# Altium integrated library Diodes - TVS.IntLib: 5379 symbols (part 113 of 122)
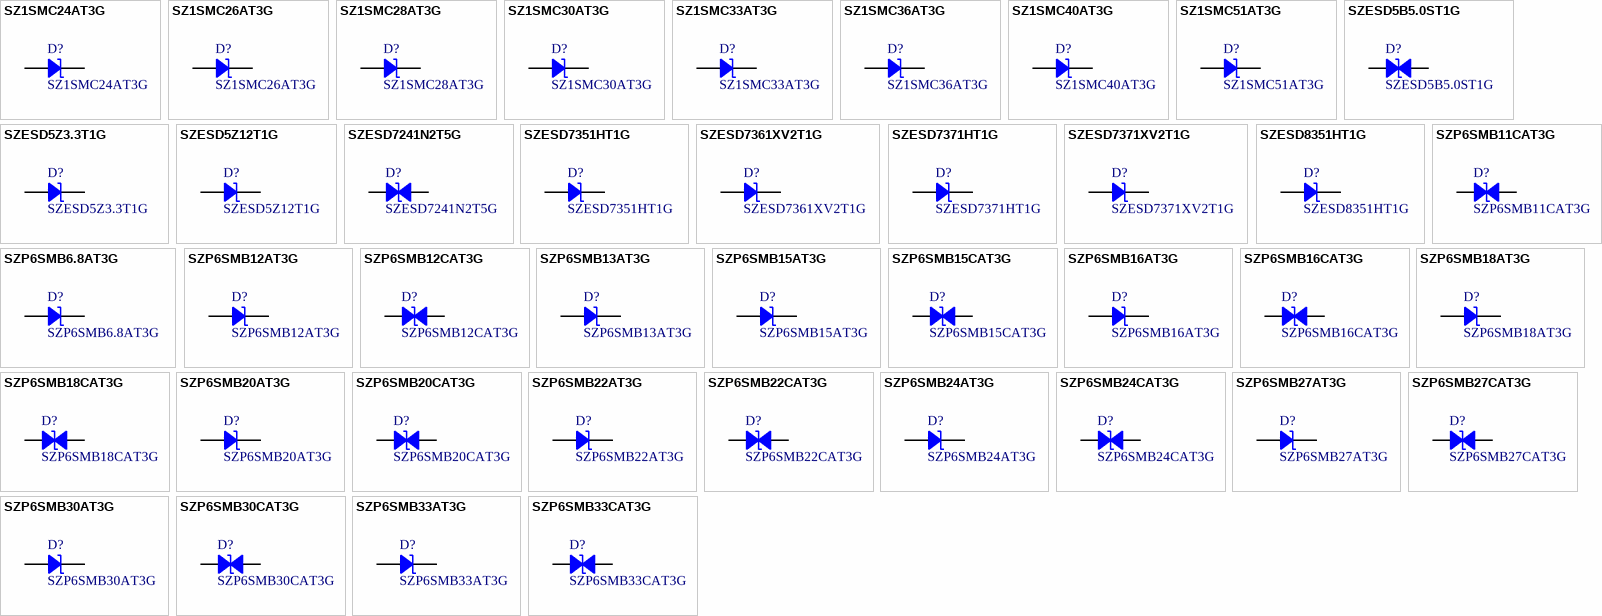
[diagram p246: symbols SZ1SMC24AT3G to SZP6SMB33CAT3G]

## SZP6SMB12AT3G
designator D?
TVS DIODE 10.2V 16.7V SMB; Manufacturer: Littelfuse Inc.; Capacitance @ Frequency: 1435pF @ 1MHz; Current - Peak Pulse (10/1000µs): 36A; Power Line Protection: No; Power - Peak Pulse: 600W; Type: Zener; Unidirectional Channels: 1; Voltage - Breakdown (Min): 11.4V; Part Number: SZP6SMB12AT3G; Applications: Automotive; ComponentLink1Description: Datasheet; ComponentLink1URL: https://www.littelfuse.com/~/media/electronics/datasheets/tvs_diodes/littelfuse_tvs_diode_szp6smb_datasheet.pdf.pdf; ComponentLink2Description: DigiKey Link; ComponentLink2URL: http://digikey.com/product-detail/en/littelfuse-inc/SZP6SMB12AT3G/F11606CT-ND/9326926; LastUpdated: 9/2/2020 1:19:51 AM; Lifecycle Status: Active; Minimum Order: 1; Mounting Type: Surface Mount; Operating Temperature: -65°C ~ 150°C (TJ); Package / Case: DO-214AA, SMB; Packaging: TapeAndReel; PartId: 11342; Part Status: Active; Price: 0.30; Series: Automotive, AEC-Q101; Supplier 1: DigiKey; Supplier Part Number 1: F11606CT-ND; Supplier Device Package: SMB; Voltage - Clamping (Max) @ Ipp: 16.7V; Voltage - Reverse Standoff (Typ): 10.2V
footprint DO214AA SMB
pins: 1, 2

## SZP6SMB12CAT3G
designator D?
TVS DIODE 10.2V 16.7V SMB; Manufacturer: Littelfuse Inc.; Bidirectional Channels: 1; Capacitance @ Frequency: 800pF @ 1MHz; Current - Peak Pulse (10/1000µs): 36A; Power Line Protection: No; Power - Peak Pulse: 600W; Type: Zener; Voltage - Breakdown (Min): 11.4V; Part Number: SZP6SMB12CAT3G; Applications: Automotive; ComponentLink1Description: Datasheet; ComponentLink1URL: https://www.littelfuse.com/~/media/electronics/datasheets/tvs_diodes/littelfuse_tvs_diode_szp6smb_datasheet.pdf.pdf; ComponentLink2Description: DigiKey Link; ComponentLink2URL: http://digikey.com/product-detail/en/littelfuse-inc/SZP6SMB12CAT3G/F11607CT-ND/9326927; LastUpdated: 9/2/2020 1:28:19 AM; Lifecycle Status: Active; Minimum Order: 1; Mounting Type: Surface Mount; Operating Temperature: -65°C ~ 150°C (TJ); Package / Case: DO-214AA, SMB; Packaging: TapeAndReel; PartId: 9299; Part Status: Active; Price: 0.35; Series: Automotive, AEC-Q101; Supplier 1: DigiKey; Supplier Part Number 1: F11607CT-ND; Supplier Device Package: SMB; Voltage - Clamping (Max) @ Ipp: 16.7V; Voltage - Reverse Standoff (Typ): 10.2V
footprint DO214AA SMB
pins: 1, 2

## SZP6SMB13AT3G
designator D?
TVS DIODE 11.1V 18.2V SMB; Manufacturer: Littelfuse Inc.; Capacitance @ Frequency: 1335pF @ 1MHz; Current - Peak Pulse (10/1000µs): 33A; Power Line Protection: No; Power - Peak Pulse: 600W; Type: Zener; Unidirectional Channels: 1; Voltage - Breakdown (Min): 12.4V; Part Number: SZP6SMB13AT3G; Applications: Automotive; ComponentLink1Description: Datasheet; ComponentLink1URL: https://www.littelfuse.com/~/media/electronics/datasheets/tvs_diodes/littelfuse_tvs_diode_szp6smb_datasheet.pdf.pdf; ComponentLink2Description: DigiKey Link; ComponentLink2URL: http://digikey.com/product-detail/en/littelfuse-inc/SZP6SMB13AT3G/F11609CT-ND/9326929; LastUpdated: 9/2/2020 1:19:50 AM; Lifecycle Status: Active; Minimum Order: 1; Mounting Type: Surface Mount; Operating Temperature: -65°C ~ 150°C (TJ); Package / Case: DO-214AA, SMB; Packaging: TapeAndReel; PartId: 11296; Part Status: Active; Price: 0.30; Series: Automotive, AEC-Q101; Supplier 1: DigiKey; Supplier Part Number 1: F11609CT-ND; Supplier Device Package: SMB; Voltage - Clamping (Max) @ Ipp: 18.2V; Voltage - Reverse Standoff (Typ): 11.1V
footprint DO214AA SMB
pins: 1, 2

## SZP6SMB15AT3G
designator D?
TVS DIODE 12.8V 21.2V SMB; Manufacturer: Littelfuse Inc.; Capacitance @ Frequency: 1175pF @ 1MHz; Current - Peak Pulse (10/1000µs): 28A; Power Line Protection: No; Power - Peak Pulse: 600W; Type: Zener; Unidirectional Channels: 1; Voltage - Breakdown (Min): 14.3V; Part Number: SZP6SMB15AT3G; Applications: Automotive; ComponentLink1Description: Datasheet; ComponentLink1URL: https://www.littelfuse.com/~/media/electronics/datasheets/tvs_diodes/littelfuse_tvs_diode_szp6smb_datasheet.pdf.pdf; ComponentLink2Description: DigiKey Link; ComponentLink2URL: http://digikey.com/product-detail/en/littelfuse-inc/SZP6SMB15AT3G/F11611CT-ND/9326931; LastUpdated: 9/2/2020 1:19:50 AM; Lifecycle Status: Active; Minimum Order: 1; Mounting Type: Surface Mount; Operating Temperature: -65°C ~ 150°C (TJ); Package / Case: DO-214AA, SMB; Packaging: TapeAndReel; PartId: 11295; Part Status: Active; Price: 0.30; Series: Automotive, AEC-Q101; Supplier 1: DigiKey; Supplier Part Number 1: F11611CT-ND; Supplier Device Package: SMB; Voltage - Clamping (Max) @ Ipp: 21.2V; Voltage - Reverse Standoff (Typ): 12.8V
footprint DO214AA SMB
pins: 1, 2

## SZP6SMB15CAT3G
designator D?
TVS DIODE 12.8V 21.2V SMB; Manufacturer: Littelfuse Inc.; Bidirectional Channels: 1; Capacitance @ Frequency: 645pF @ 1MHz; Current - Peak Pulse (10/1000µs): 28A; Power Line Protection: No; Power - Peak Pulse: 600W; Type: Zener; Voltage - Breakdown (Min): 14.3V; Part Number: SZP6SMB15CAT3G; Applications: Automotive; ComponentLink1Description: Datasheet; ComponentLink1URL: https://www.littelfuse.com/~/media/electronics/datasheets/tvs_diodes/littelfuse_tvs_diode_szp6smb_datasheet.pdf.pdf; ComponentLink2Description: DigiKey Link; ComponentLink2URL: http://digikey.com/product-detail/en/littelfuse-inc/SZP6SMB15CAT3G/F11612CT-ND/9326932; LastUpdated: 9/2/2020 1:28:18 AM; Lifecycle Status: Active; Minimum Order: 1; Mounting Type: Surface Mount; Operating Temperature: -65°C ~ 150°C (TJ); Package / Case: DO-214AA, SMB; Packaging: TapeAndReel; PartId: 9141; Part Status: Active; Price: 0.35; Series: Automotive, AEC-Q101; Supplier 1: DigiKey; Supplier Part Number 1: F11612CT-ND; Supplier Device Package: SMB; Voltage - Clamping (Max) @ Ipp: 21.2V; Voltage - Reverse Standoff (Typ): 12.8V
footprint DO214AA SMB
pins: 1, 2

## SZP6SMB16AT3G
designator D?
TVS DIODE 13.6V 22.5V SMB; Manufacturer: Littelfuse Inc.; Capacitance @ Frequency: 1110pF @ 1MHz; Current - Peak Pulse (10/1000µs): 27A; Power Line Protection: No; Power - Peak Pulse: 600W; Type: Zener; Unidirectional Channels: 1; Voltage - Breakdown (Min): 15.2V; Part Number: SZP6SMB16AT3G; Applications: Automotive; ComponentLink1Description: Datasheet; ComponentLink1URL: https://www.littelfuse.com/~/media/electronics/datasheets/tvs_diodes/littelfuse_tvs_diode_szp6smb_datasheet.pdf.pdf; ComponentLink2Description: DigiKey Link; ComponentLink2URL: http://digikey.com/product-detail/en/littelfuse-inc/SZP6SMB16AT3G/F11614CT-ND/9326934; LastUpdated: 9/2/2020 1:19:51 AM; Lifecycle Status: Active; Minimum Order: 1; Mounting Type: Surface Mount; Operating Temperature: -65°C ~ 150°C (TJ); Package / Case: DO-214AA, SMB; Packaging: TapeAndReel; PartId: 11340; Part Status: Active; Price: 0.30; Series: Automotive, AEC-Q101; Supplier 1: DigiKey; Supplier Part Number 1: F11614CT-ND; Supplier Device Package: SMB; Voltage - Clamping (Max) @ Ipp: 22.5V; Voltage - Reverse Standoff (Typ): 13.6V
footprint DO214AA SMB
pins: 1, 2

## SZP6SMB16CAT3G
designator D?
TVS DIODE 13.6V 22.5V SMB; Manufacturer: Littelfuse Inc.; Bidirectional Channels: 1; Capacitance @ Frequency: 610pF @ 1MHz; Current - Peak Pulse (10/1000µs): 27A; Power Line Protection: No; Power - Peak Pulse: 600W; Type: Zener; Voltage - Breakdown (Min): 15.2V; Part Number: SZP6SMB16CAT3G; Applications: Automotive; ComponentLink1Description: Datasheet; ComponentLink1URL: https://www.littelfuse.com/~/media/electronics/datasheets/tvs_diodes/littelfuse_tvs_diode_szp6smb_datasheet.pdf.pdf; ComponentLink2Description: DigiKey Link; ComponentLink2URL: http://digikey.com/product-detail/en/littelfuse-inc/SZP6SMB16CAT3G/F11615CT-ND/9326935; LastUpdated: 9/2/2020 1:28:19 AM; Lifecycle Status: Active; Minimum Order: 1; Mounting Type: Surface Mount; Operating Temperature: -65°C ~ 150°C (TJ); Package / Case: DO-214AA, SMB; Packaging: TapeAndReel; PartId: 9302; Part Status: Active; Price: 0.35; Series: Automotive, AEC-Q101; Supplier 1: DigiKey; Supplier Part Number 1: F11615CT-ND; Supplier Device Package: SMB; Voltage - Clamping (Max) @ Ipp: 22.5V; Voltage - Reverse Standoff (Typ): 13.6V
footprint DO214AA SMB
pins: 1, 2

## SZP6SMB18AT3G
designator D?
TVS DIODE 15.3V 25.2V SMB; Manufacturer: Littelfuse Inc.; Capacitance @ Frequency: 1000pF @ 1MHz; Current - Peak Pulse (10/1000µs): 24A; Power Line Protection: No; Power - Peak Pulse: 600W; Type: Zener; Unidirectional Channels: 1; Voltage - Breakdown (Min): 17.1V; Part Number: SZP6SMB18AT3G; Applications: Automotive; ComponentLink1Description: Datasheet; ComponentLink1URL: https://www.littelfuse.com/~/media/electronics/datasheets/tvs_diodes/littelfuse_tvs_diode_szp6smb_datasheet.pdf.pdf; ComponentLink2Description: DigiKey Link; ComponentLink2URL: http://digikey.com/product-detail/en/littelfuse-inc/SZP6SMB18AT3G/F11617CT-ND/9326937; LastUpdated: 9/2/2020 1:19:43 AM; Lifecycle Status: Active; Minimum Order: 1; Mounting Type: Surface Mount; Operating Temperature: -65°C ~ 150°C (TJ); Package / Case: DO-214AA, SMB; Packaging: TapeAndReel; PartId: 10527; Part Status: Active; Price: 0.24; Series: Automotive, AEC-Q101; Supplier 1: DigiKey; Supplier Part Number 1: F11617CT-ND; Supplier Device Package: SMB; Voltage - Clamping (Max) @ Ipp: 25.2V; Voltage - Reverse Standoff (Typ): 15.3V
footprint DO214AA SMB
pins: 1, 2

## SZP6SMB18CAT3G
designator D?
TVS DIODE 15.3V 25.2V SMB; Manufacturer: Littelfuse Inc.; Bidirectional Channels: 1; Capacitance @ Frequency: 545pF @ 1MHz; Current - Peak Pulse (10/1000µs): 24A; Power Line Protection: No; Power - Peak Pulse: 600W; Type: Zener; Voltage - Breakdown (Min): 17.1V; Part Number: SZP6SMB18CAT3G; Applications: Automotive; ComponentLink1Description: Datasheet; ComponentLink1URL: https://www.littelfuse.com/~/media/electronics/datasheets/tvs_diodes/littelfuse_tvs_diode_szp6smb_datasheet.pdf.pdf; ComponentLink2Description: DigiKey Link; ComponentLink2URL: http://digikey.com/product-detail/en/littelfuse-inc/SZP6SMB18CAT3G/F11618CT-ND/9326938; LastUpdated: 9/2/2020 1:28:19 AM; Lifecycle Status: Active; Minimum Order: 1; Mounting Type: Surface Mount; Operating Temperature: -65°C ~ 150°C (TJ); Package / Case: DO-214AA, SMB; Packaging: TapeAndReel; PartId: 9300; Part Status: Active; Price: 0.35; Series: Automotive, AEC-Q101; Supplier 1: DigiKey; Supplier Part Number 1: F11618CT-ND; Supplier Device Package: SMB; Voltage - Clamping (Max) @ Ipp: 25.2V; Voltage - Reverse Standoff (Typ): 15.3V
footprint DO214AA SMB
pins: 1, 2

## SZP6SMB20AT3G
designator D?
TVS DIODE 17.1V 27.7V SMB; Manufacturer: Littelfuse Inc.; Capacitance @ Frequency: 910pF @ 1MHz; Current - Peak Pulse (10/1000µs): 22A; Power Line Protection: No; Power - Peak Pulse: 600W; Type: Zener; Unidirectional Channels: 1; Voltage - Breakdown (Min): 19V; Part Number: SZP6SMB20AT3G; Applications: Automotive; ComponentLink1Description: Datasheet; ComponentLink1URL: https://www.littelfuse.com/~/media/electronics/datasheets/tvs_diodes/littelfuse_tvs_diode_szp6smb_datasheet.pdf.pdf; ComponentLink2Description: DigiKey Link; ComponentLink2URL: http://digikey.com/product-detail/en/littelfuse-inc/SZP6SMB20AT3G/F11619CT-ND/9326939; LastUpdated: 9/2/2020 1:19:51 AM; Lifecycle Status: Active; Minimum Order: 1; Mounting Type: Surface Mount; Operating Temperature: -65°C ~ 150°C (TJ); Package / Case: DO-214AA, SMB; Packaging: TapeAndReel; PartId: 11312; Part Status: Active; Price: 0.24; Series: Automotive, AEC-Q101; Supplier 1: DigiKey; Supplier Part Number 1: F11619CT-ND; Supplier Device Package: SMB; Voltage - Clamping (Max) @ Ipp: 27.7V; Voltage - Reverse Standoff (Typ): 17.1V
footprint DO214AA SMB
pins: 1, 2

## SZP6SMB20CAT3G
designator D?
TVS DIODE 17.1V 27.7V SMB; Manufacturer: Littelfuse Inc.; Bidirectional Channels: 1; Capacitance @ Frequency: 490pF @ 1MHz; Current - Peak Pulse (10/1000µs): 22A; Power Line Protection: No; Power - Peak Pulse: 600W; Type: Zener; Voltage - Breakdown (Min): 19V; Part Number: SZP6SMB20CAT3G; Applications: Automotive; ComponentLink1Description: Datasheet; ComponentLink1URL: https://www.littelfuse.com/~/media/electronics/datasheets/tvs_diodes/littelfuse_tvs_diode_szp6smb_datasheet.pdf.pdf; ComponentLink2Description: DigiKey Link; ComponentLink2URL: http://digikey.com/product-detail/en/littelfuse-inc/SZP6SMB20CAT3G/F11620CT-ND/9326940; LastUpdated: 9/2/2020 1:28:22 AM; Lifecycle Status: Active; Minimum Order: 1; Mounting Type: Surface Mount; Operating Temperature: -65°C ~ 150°C (TJ); Package / Case: DO-214AA, SMB; Packaging: TapeAndReel; PartId: 9652; Part Status: Active; Price: 0.29; Series: Automotive, AEC-Q101; Supplier 1: DigiKey; Supplier Part Number 1: F11620CT-ND; Supplier Device Package: SMB; Voltage - Clamping (Max) @ Ipp: 27.7V; Voltage - Reverse Standoff (Typ): 17.1V
footprint DO214AA SMB
pins: 1, 2

## SZP6SMB22AT3G
designator D?
TVS DIODE 18.8V 30.6V SMB; Manufacturer: Littelfuse Inc.; Capacitance @ Frequency: 835pF @ 1MHz; Current - Peak Pulse (10/1000µs): 20A; Power Line Protection: No; Power - Peak Pulse: 600W; Type: Zener; Unidirectional Channels: 1; Voltage - Breakdown (Min): 20.9V; Part Number: SZP6SMB22AT3G; Applications: Automotive; ComponentLink1Description: Datasheet; ComponentLink1URL: https://www.littelfuse.com/~/media/electronics/datasheets/tvs_diodes/littelfuse_tvs_diode_szp6smb_datasheet.pdf.pdf; ComponentLink2Description: DigiKey Link; ComponentLink2URL: http://digikey.com/product-detail/en/littelfuse-inc/SZP6SMB22AT3G/F11621CT-ND/9326941; LastUpdated: 9/2/2020 1:19:51 AM; Lifecycle Status: Active; Minimum Order: 1; Mounting Type: Surface Mount; Operating Temperature: -65°C ~ 150°C (TJ); Package / Case: DO-214AA, SMB; Packaging: TapeAndReel; PartId: 11349; Part Status: Active; Price: 0.30; Series: Automotive, AEC-Q101; Supplier 1: DigiKey; Supplier Part Number 1: F11621CT-ND; Supplier Device Package: SMB; Voltage - Clamping (Max) @ Ipp: 30.6V; Voltage - Reverse Standoff (Typ): 18.8V
footprint DO214AA SMB
pins: 1, 2

## SZP6SMB22CAT3G
designator D?
TVS DIODE 18.8V 30.6V SMB; Manufacturer: Littelfuse Inc.; Bidirectional Channels: 1; Capacitance @ Frequency: 450pF @ 1MHz; Current - Peak Pulse (10/1000µs): 20A; Power Line Protection: No; Power - Peak Pulse: 600W; Type: Zener; Voltage - Breakdown (Min): 20.9V; Part Number: SZP6SMB22CAT3G; Applications: Automotive; ComponentLink1Description: Datasheet; ComponentLink1URL: https://www.littelfuse.com/~/media/electronics/datasheets/tvs_diodes/littelfuse_tvs_diode_szp6smb_datasheet.pdf.pdf; ComponentLink2Description: DigiKey Link; ComponentLink2URL: http://digikey.com/product-detail/en/littelfuse-inc/SZP6SMB22CAT3G/F11622CT-ND/9326942; LastUpdated: 9/2/2020 1:28:19 AM; Lifecycle Status: Active; Minimum Order: 1; Mounting Type: Surface Mount; Operating Temperature: -65°C ~ 150°C (TJ); Package / Case: DO-214AA, SMB; Packaging: TapeAndReel; PartId: 9316; Part Status: Active; Price: 0.37; Series: Automotive, AEC-Q101; Supplier 1: DigiKey; Supplier Part Number 1: F11622CT-ND; Supplier Device Package: SMB; Voltage - Clamping (Max) @ Ipp: 30.6V; Voltage - Reverse Standoff (Typ): 18.8V
footprint DO214AA SMB
pins: 1, 2

## SZP6SMB24AT3G
designator D?
TVS DIODE 20.5V 33.2V SMB; Manufacturer: Littelfuse Inc.; Capacitance @ Frequency: 775pF @ 1MHz; Current - Peak Pulse (10/1000µs): 18A; Power Line Protection: No; Power - Peak Pulse: 600W; Type: Zener; Unidirectional Channels: 1; Voltage - Breakdown (Min): 22.8V; Part Number: SZP6SMB24AT3G; Applications: Automotive; ComponentLink1Description: Datasheet; ComponentLink1URL: https://www.littelfuse.com/~/media/electronics/datasheets/tvs_diodes/littelfuse_tvs_diode_szp6smb_datasheet.pdf.pdf; ComponentLink2Description: DigiKey Link; ComponentLink2URL: http://digikey.com/product-detail/en/littelfuse-inc/SZP6SMB24AT3G/F11623CT-ND/9326943; LastUpdated: 9/2/2020 1:19:51 AM; Lifecycle Status: Active; Minimum Order: 1; Mounting Type: Surface Mount; Operating Temperature: -65°C ~ 150°C (TJ); Package / Case: DO-214AA, SMB; Packaging: TapeAndReel; PartId: 11348; Part Status: Active; Price: 0.30; Series: Automotive, AEC-Q101; Supplier 1: DigiKey; Supplier Part Number 1: F11623CT-ND; Supplier Device Package: SMB; Voltage - Clamping (Max) @ Ipp: 33.2V; Voltage - Reverse Standoff (Typ): 20.5V
footprint DO214AA SMB
pins: 1, 2

## SZP6SMB24CAT3G
designator D?
TVS DIODE 20.5V 33.2V SMB; Manufacturer: Littelfuse Inc.; Bidirectional Channels: 1; Capacitance @ Frequency: 415pF @ 1MHz; Current - Peak Pulse (10/1000µs): 18A; Power Line Protection: No; Power - Peak Pulse: 600W; Type: Zener; Voltage - Breakdown (Min): 22.8V; Part Number: SZP6SMB24CAT3G; Applications: Automotive; ComponentLink1Description: Datasheet; ComponentLink1URL: https://www.littelfuse.com/~/media/electronics/datasheets/tvs_diodes/littelfuse_tvs_diode_szp6smb_datasheet.pdf.pdf; ComponentLink2Description: DigiKey Link; ComponentLink2URL: http://digikey.com/product-detail/en/littelfuse-inc/SZP6SMB24CAT3G/F11624CT-ND/9326944; LastUpdated: 9/2/2020 1:28:19 AM; Lifecycle Status: Active; Minimum Order: 1; Mounting Type: Surface Mount; Operating Temperature: -65°C ~ 150°C (TJ); Package / Case: DO-214AA, SMB; Packaging: TapeAndReel; PartId: 9306; Part Status: Active; Price: 0.35; Series: Automotive, AEC-Q101; Supplier 1: DigiKey; Supplier Part Number 1: F11624CT-ND; Supplier Device Package: SMB; Voltage - Clamping (Max) @ Ipp: 33.2V; Voltage - Reverse Standoff (Typ): 20.5V
footprint DO214AA SMB
pins: 1, 2

## SZP6SMB27AT3G
designator D?
TVS DIODE 23.1V 37.5V SMB; Manufacturer: Littelfuse Inc.; Capacitance @ Frequency: 700pF @ 1MHz; Current - Peak Pulse (10/1000µs): 16A; Power Line Protection: No; Power - Peak Pulse: 600W; Type: Zener; Unidirectional Channels: 1; Voltage - Breakdown (Min): 25.7V; Part Number: SZP6SMB27AT3G; Applications: Automotive; ComponentLink1Description: Datasheet; ComponentLink1URL: https://www.littelfuse.com/~/media/electronics/datasheets/tvs_diodes/littelfuse_tvs_diode_szp6smb_datasheet.pdf.pdf; ComponentLink2Description: DigiKey Link; ComponentLink2URL: http://digikey.com/product-detail/en/littelfuse-inc/SZP6SMB27AT3G/SZP6SMB27AT3GOSCT-ND/5969195; LastUpdated: 9/2/2020 1:19:43 AM; Lifecycle Status: Active; Minimum Order: 1; Mounting Type: Surface Mount; Operating Temperature: -65°C ~ 150°C (TJ); Package / Case: DO-214AA, SMB; Packaging: TapeAndReel; PartId: 10531; Part Status: Active; Price: 0.24; Series: Automotive, AEC-Q101; Supplier 1: DigiKey; Supplier Part Number 1: SZP6SMB27AT3GOSCT-ND; Supplier Device Package: SMB; Voltage - Clamping (Max) @ Ipp: 37.5V; Voltage - Reverse Standoff (Typ): 23.1V
footprint DO214AA SMB
pins: 1, 2

## SZP6SMB27CAT3G
designator D?
TVS DIODE 23.1V 37.5V SMB; Manufacturer: Littelfuse Inc.; Bidirectional Channels: 1; Capacitance @ Frequency: 370pF @ 1MHz; Current - Peak Pulse (10/1000µs): 16A; Power Line Protection: No; Power - Peak Pulse: 600W; Type: Zener; Voltage - Breakdown (Min): 25.7V; Part Number: SZP6SMB27CAT3G; Applications: Automotive; ComponentLink1Description: Datasheet; ComponentLink1URL: https://www.littelfuse.com/~/media/electronics/datasheets/tvs_diodes/littelfuse_tvs_diode_szp6smb_datasheet.pdf.pdf; ComponentLink2Description: DigiKey Link; ComponentLink2URL: http://digikey.com/product-detail/en/littelfuse-inc/SZP6SMB27CAT3G/F11625CT-ND/9326945; LastUpdated: 9/2/2020 1:28:16 AM; Lifecycle Status: Active; Minimum Order: 1; Mounting Type: Surface Mount; Operating Temperature: -65°C ~ 150°C (TJ); Package / Case: DO-214AA, SMB; Packaging: TapeAndReel; PartId: 8903; Part Status: Active; Price: 0.26; Series: Automotive, AEC-Q101; Supplier 1: DigiKey; Supplier Part Number 1: F11625CT-ND; Supplier Device Package: SMB; Voltage - Clamping (Max) @ Ipp: 37.5V; Voltage - Reverse Standoff (Typ): 23.1V
footprint DO214AA SMB
pins: 1, 2

## SZP6SMB30AT3G
designator D?
TVS DIODE 25.6V 41.4V SMB; Manufacturer: Littelfuse Inc.; Capacitance @ Frequency: 635pF @ 1MHz; Current - Peak Pulse (10/1000µs): 14.4A; Power Line Protection: No; Power - Peak Pulse: 600W; Type: Zener; Unidirectional Channels: 1; Voltage - Breakdown (Min): 28.5V; Part Number: SZP6SMB30AT3G; Applications: Automotive; ComponentLink1Description: Datasheet; ComponentLink1URL: https://www.littelfuse.com/~/media/electronics/datasheets/tvs_diodes/littelfuse_tvs_diode_szp6smb_datasheet.pdf.pdf; ComponentLink2Description: DigiKey Link; ComponentLink2URL: http://digikey.com/product-detail/en/littelfuse-inc/SZP6SMB30AT3G/F11626CT-ND/9326946; LastUpdated: 9/2/2020 1:19:43 AM; Lifecycle Status: Active; Minimum Order: 1; Mounting Type: Surface Mount; Operating Temperature: -65°C ~ 150°C (TJ); Package / Case: DO-214AA, SMB; Packaging: TapeAndReel; PartId: 10525; Part Status: Active; Price: 0.24; Series: Automotive, AEC-Q101; Supplier 1: DigiKey; Supplier Part Number 1: F11626CT-ND; Supplier Device Package: SMB; Voltage - Clamping (Max) @ Ipp: 41.4V; Voltage - Reverse Standoff (Typ): 25.6V
footprint DO214AA SMB
pins: 1, 2

## SZP6SMB30CAT3G
designator D?
TVS DIODE 25.6V 41.4V SMB; Manufacturer: Littelfuse Inc.; Bidirectional Channels: 1; Capacitance @ Frequency: 335pF @ 1MHz; Current - Peak Pulse (10/1000µs): 14.4A; Power Line Protection: No; Power - Peak Pulse: 600W; Type: Zener; Voltage - Breakdown (Min): 28.5V; Part Number: SZP6SMB30CAT3G; Applications: Automotive; ComponentLink1Description: Datasheet; ComponentLink1URL: https://www.littelfuse.com/~/media/electronics/datasheets/tvs_diodes/littelfuse_tvs_diode_szp6smb_datasheet.pdf.pdf; ComponentLink2Description: DigiKey Link; ComponentLink2URL: http://digikey.com/product-detail/en/littelfuse-inc/SZP6SMB30CAT3G/F11627CT-ND/9326947; LastUpdated: 9/2/2020 1:28:22 AM; Lifecycle Status: Active; Minimum Order: 1; Mounting Type: Surface Mount; Operating Temperature: -65°C ~ 150°C (TJ); Package / Case: DO-214AA, SMB; Packaging: TapeAndReel; PartId: 9645; Part Status: Active; Price: 0.29; Series: Automotive, AEC-Q101; Supplier 1: DigiKey; Supplier Part Number 1: F11627CT-ND; Supplier Device Package: SMB; Voltage - Clamping (Max) @ Ipp: 41.4V; Voltage - Reverse Standoff (Typ): 25.6V
footprint DO214AA SMB
pins: 1, 2

## SZP6SMB33AT3G
designator D?
TVS DIODE 28.2V 45.7V SMB; Manufacturer: Littelfuse Inc.; Capacitance @ Frequency: 585pF @ 1MHz; Current - Peak Pulse (10/1000µs): 13.2A; Power Line Protection: No; Power - Peak Pulse: 600W; Type: Zener; Unidirectional Channels: 1; Voltage - Breakdown (Min): 31.4V; Part Number: SZP6SMB33AT3G; Applications: Automotive; ComponentLink1Description: Datasheet; ComponentLink1URL: https://www.littelfuse.com/~/media/electronics/datasheets/tvs_diodes/littelfuse_tvs_diode_szp6smb_datasheet.pdf.pdf; ComponentLink2Description: DigiKey Link; ComponentLink2URL: http://digikey.com/product-detail/en/littelfuse-inc/SZP6SMB33AT3G/F11629CT-ND/9326949; LastUpdated: 9/2/2020 1:19:45 AM; Lifecycle Status: Active; Minimum Order: 1; Mounting Type: Surface Mount; Operating Temperature: -65°C ~ 150°C (TJ); Package / Case: DO-214AA, SMB; Packaging: TapeAndReel; PartId: 10736; Part Status: Active; Price: 0.24; Series: Automotive, AEC-Q101; Supplier 1: DigiKey; Supplier Part Number 1: F11629CT-ND; Supplier Device Package: SMB; Voltage - Clamping (Max) @ Ipp: 45.7V; Voltage - Reverse Standoff (Typ): 28.2V
footprint DO214AA SMB
pins: 1, 2

## SZP6SMB33CAT3G
designator D?
TVS DIODE 28.2V 45.7V SMB; Manufacturer: Littelfuse Inc.; Bidirectional Channels: 1; Capacitance @ Frequency: 305pF @ 1MHz; Current - Peak Pulse (10/1000µs): 13.2A; Power Line Protection: No; Power - Peak Pulse: 600W; Type: Zener; Voltage - Breakdown (Min): 31.4V; Part Number: SZP6SMB33CAT3G; Applications: Automotive; ComponentLink1Description: Datasheet; ComponentLink1URL: https://www.littelfuse.com/~/media/electronics/datasheets/tvs_diodes/littelfuse_tvs_diode_szp6smb_datasheet.pdf.pdf; ComponentLink2Description: DigiKey Link; ComponentLink2URL: http://digikey.com/product-detail/en/littelfuse-inc/SZP6SMB33CAT3G/F11630CT-ND/9326950; LastUpdated: 9/2/2020 1:28:19 AM; Lifecycle Status: Active; Minimum Order: 1; Mounting Type: Surface Mount; Operating Temperature: -65°C ~ 150°C (TJ); Package / Case: DO-214AA, SMB; Packaging: TapeAndReel; PartId: 9314; Part Status: Active; Price: 0.34; Series: Automotive, AEC-Q101; Supplier 1: DigiKey; Supplier Part Number 1: F11630CT-ND; Supplier Device Package: SMB; Voltage - Clamping (Max) @ Ipp: 45.7V; Voltage - Reverse Standoff (Typ): 28.2V
footprint DO214AA SMB
pins: 1, 2

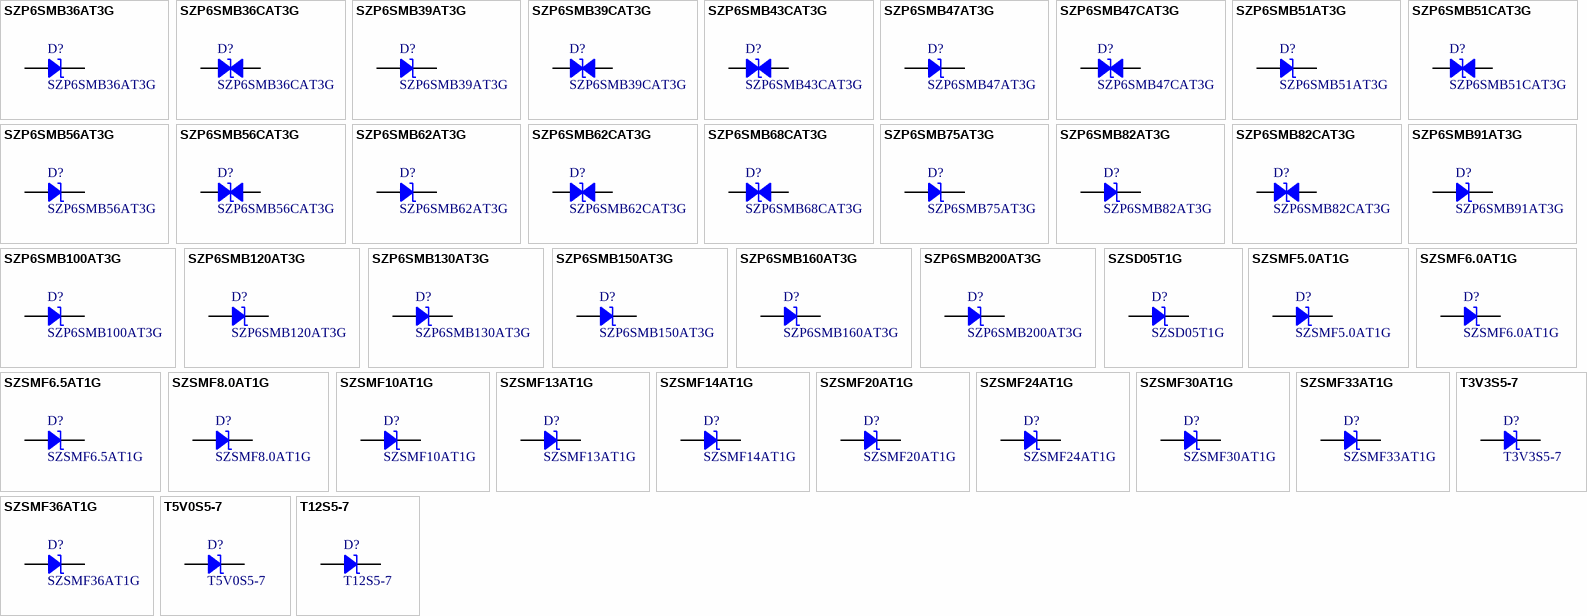
[diagram p125: symbols SZP6SMB36AT3G to T12S5-7]

## SZP6SMB36AT3G
designator D?
TVS DIODE 30.8V 49.9V SMB; Manufacturer: Littelfuse Inc.; Capacitance @ Frequency: 540pF @ 1MHz; Current - Peak Pulse (10/1000µs): 12A; Power Line Protection: No; Power - Peak Pulse: 600W; Type: Zener; Unidirectional Channels: 1; Voltage - Breakdown (Min): 34.2V; Part Number: SZP6SMB36AT3G; Applications: Automotive; ComponentLink1Description: Datasheet; ComponentLink1URL: https://www.littelfuse.com/~/media/electronics/datasheets/tvs_diodes/littelfuse_tvs_diode_szp6smb_datasheet.pdf.pdf; ComponentLink2Description: DigiKey Link; ComponentLink2URL: http://digikey.com/product-detail/en/littelfuse-inc/SZP6SMB36AT3G/SZP6SMB36AT3GOSCT-ND/5969200; LastUpdated: 9/2/2020 1:19:43 AM; Lifecycle Status: Active; Minimum Order: 1; Mounting Type: Surface Mount; Operating Temperature: -65°C ~ 150°C (TJ); Package / Case: DO-214AA, SMB; Packaging: TapeAndReel; PartId: 10565; Part Status: Active; Price: 0.24; Series: Automotive, AEC-Q101; Supplier 1: DigiKey; Supplier Part Number 1: SZP6SMB36AT3GOSCT-ND; Supplier Device Package: SMB; Voltage - Clamping (Max) @ Ipp: 49.9V; Voltage - Reverse Standoff (Typ): 30.8V
footprint DO214AA SMB
pins: 1, 2

## SZP6SMB36CAT3G
designator D?
TVS DIODE 30.8V 49.9V SMB; Manufacturer: Littelfuse Inc.; Bidirectional Channels: 1; Capacitance @ Frequency: 280pF @ 1MHz; Current - Peak Pulse (10/1000µs): 12A; Power Line Protection: No; Power - Peak Pulse: 600W; Type: Zener; Voltage - Breakdown (Min): 34.2V; Part Number: SZP6SMB36CAT3G; Applications: Automotive; ComponentLink1Description: Datasheet; ComponentLink1URL: https://www.littelfuse.com/~/media/electronics/datasheets/tvs_diodes/littelfuse_tvs_diode_szp6smb_datasheet.pdf.pdf; ComponentLink2Description: DigiKey Link; ComponentLink2URL: http://digikey.com/product-detail/en/littelfuse-inc/SZP6SMB36CAT3G/SZP6SMB36CAT3GOSCT-ND/3487491; LastUpdated: 9/2/2020 1:28:16 AM; Lifecycle Status: Active; Minimum Order: 1; Mounting Type: Surface Mount; Operating Temperature: -65°C ~ 150°C (TJ); Package / Case: DO-214AA, SMB; Packaging: TapeAndReel; PartId: 8893; Part Status: Active; Price: 0.34; Series: Automotive, AEC-Q101; Supplier 1: DigiKey; Supplier Part Number 1: SZP6SMB36CAT3GOSCT-ND; Supplier Device Package: SMB; Voltage - Clamping (Max) @ Ipp: 49.9V; Voltage - Reverse Standoff (Typ): 30.8V
footprint DO214AA SMB
pins: 1, 2

## SZP6SMB39AT3G
designator D?
TVS DIODE 33.3V 53.9V SMB; Manufacturer: Littelfuse Inc.; Capacitance @ Frequency: 500pF @ 1MHz; Current - Peak Pulse (10/1000µs): 11.2A; Power Line Protection: No; Power - Peak Pulse: 600W; Type: Zener; Unidirectional Channels: 1; Voltage - Breakdown (Min): 37.1V; Part Number: SZP6SMB39AT3G; Applications: Automotive; ComponentLink1Description: Datasheet; ComponentLink1URL: https://www.littelfuse.com/~/media/electronics/datasheets/tvs_diodes/littelfuse_tvs_diode_szp6smb_datasheet.pdf.pdf; ComponentLink2Description: DigiKey Link; ComponentLink2URL: http://digikey.com/product-detail/en/littelfuse-inc/SZP6SMB39AT3G/F11631CT-ND/9326951; LastUpdated: 9/2/2020 1:19:47 AM; Lifecycle Status: Active; Minimum Order: 1; Mounting Type: Surface Mount; Operating Temperature: -65°C ~ 150°C (TJ); Package / Case: DO-214AA, SMB; Packaging: TapeAndReel; PartId: 10904; Part Status: Active; Price: 0.24; Series: Automotive, AEC-Q101; Supplier 1: DigiKey; Supplier Part Number 1: F11631CT-ND; Supplier Device Package: SMB; Voltage - Clamping (Max) @ Ipp: 53.9V; Voltage - Reverse Standoff (Typ): 33.3V
footprint DO214AA SMB
pins: 1, 2

## SZP6SMB39CAT3G
designator D?
TVS DIODE 33.3V 53.9V SMB; Manufacturer: Littelfuse Inc.; Bidirectional Channels: 1; Capacitance @ Frequency: 260pF @ 1MHz; Current - Peak Pulse (10/1000µs): 11.2A; Power Line Protection: No; Power - Peak Pulse: 600W; Type: Zener; Voltage - Breakdown (Min): 37.1V; Part Number: SZP6SMB39CAT3G; Applications: Automotive; ComponentLink1Description: Datasheet; ComponentLink1URL: https://www.littelfuse.com/~/media/electronics/datasheets/tvs_diodes/littelfuse_tvs_diode_szp6smb_datasheet.pdf.pdf; ComponentLink2Description: DigiKey Link; ComponentLink2URL: http://digikey.com/product-detail/en/littelfuse-inc/SZP6SMB39CAT3G/F11632CT-ND/9326952; LastUpdated: 9/2/2020 1:28:21 AM; Lifecycle Status: Active; Minimum Order: 1; Mounting Type: Surface Mount; Operating Temperature: -65°C ~ 150°C (TJ); Package / Case: DO-214AA, SMB; Packaging: TapeAndReel; PartId: 9589; Part Status: Active; Price: 0.29; Series: Automotive, AEC-Q101; Supplier 1: DigiKey; Supplier Part Number 1: F11632CT-ND; Supplier Device Package: SMB; Voltage - Clamping (Max) @ Ipp: 53.9V; Voltage - Reverse Standoff (Typ): 33.3V
footprint DO214AA SMB
pins: 1, 2

## SZP6SMB43CAT3G
designator D?
TVS DIODE 36.8VWM 59.3VC SMB; Manufacturer: Littelfuse Inc.; Bidirectional Channels: 1; Capacitance @ Frequency: 240pF @ 1MHz; Current - Peak Pulse (10/1000µs): 10.1A; Power Line Protection: No; Power - Peak Pulse: 600W; Type: Zener; Voltage - Breakdown (Min): 40.9V; Voltage - Clamping (Max) @ Ipp: 59.3V; Voltage - Reverse Standoff (Typ): 36.8V; Part Number: SZP6SMB43CAT3G; Applications: Automotive; ComponentLink1Description: Datasheet; ComponentLink1URL: https://www.littelfuse.com/~/media/electronics/datasheets/tvs_diodes/littelfuse_tvs_diode_szp6smb_datasheet.pdf.pdf; ComponentLink2Description: DigiKey Link; ComponentLink2URL: http://digikey.com/product-detail/en/littelfuse-inc/SZP6SMB43CAT3G/SZP6SMB43CAT3GCT-ND/8548345; LastUpdated: 9/2/2020 1:28:17 AM; Lifecycle Status: Active; Minimum Order: 1; Mounting Type: Surface Mount; Operating Temperature: -65°C ~ 150°C (TJ); Package / Case: DO-214AA, SMB; Packaging: TapeAndReel; PartId: 9082; Part Status: Active; Price: 0.29; Series: Automotive, AEC-Q101; Supplier 1: DigiKey; Supplier Part Number 1: SZP6SMB43CAT3GCT-ND; Supplier Device Package: SMB
footprint DO214AA SMB
pins: 1, 2

## SZP6SMB47AT3G
designator D?
TVS DIODE 40.2V 64.8V SMB; Manufacturer: Littelfuse Inc.; Capacitance @ Frequency: 425pF @ 1MHz; Current - Peak Pulse (10/1000µs): 9.3A; Power Line Protection: No; Power - Peak Pulse: 600W; Type: Zener; Unidirectional Channels: 1; Voltage - Breakdown (Min): 44.7V; Part Number: SZP6SMB47AT3G; Applications: Automotive; ComponentLink1Description: Datasheet; ComponentLink1URL: https://www.littelfuse.com/~/media/electronics/datasheets/tvs_diodes/littelfuse_tvs_diode_szp6smb_datasheet.pdf.pdf; ComponentLink2Description: DigiKey Link; ComponentLink2URL: http://digikey.com/product-detail/en/littelfuse-inc/SZP6SMB47AT3G/F11633CT-ND/9326953; LastUpdated: 9/2/2020 1:19:43 AM; Lifecycle Status: Active; Minimum Order: 1; Mounting Type: Surface Mount; Operating Temperature: -65°C ~ 150°C (TJ); Package / Case: DO-214AA, SMB; Packaging: TapeAndReel; PartId: 10528; Part Status: Active; Price: 0.24; Series: Automotive, AEC-Q101; Supplier 1: DigiKey; Supplier Part Number 1: F11633CT-ND; Supplier Device Package: SMB; Voltage - Clamping (Max) @ Ipp: 64.8V; Voltage - Reverse Standoff (Typ): 40.2V
footprint DO214AA SMB
pins: 1, 2

## SZP6SMB47CAT3G
designator D?
TVS DIODE 40.2V 64.8V SMB; Manufacturer: Littelfuse Inc.; Bidirectional Channels: 1; Capacitance @ Frequency: 220pF @ 1MHz; Current - Peak Pulse (10/1000µs): 9.3A; Power Line Protection: No; Power - Peak Pulse: 600W; Type: Zener; Voltage - Breakdown (Min): 44.7V; Part Number: SZP6SMB47CAT3G; Applications: Automotive; ComponentLink1Description: Datasheet; ComponentLink1URL: https://www.littelfuse.com/~/media/electronics/datasheets/tvs_diodes/littelfuse_tvs_diode_szp6smb_datasheet.pdf.pdf; ComponentLink2Description: DigiKey Link; ComponentLink2URL: http://digikey.com/product-detail/en/littelfuse-inc/SZP6SMB47CAT3G/F11634CT-ND/9326954; LastUpdated: 9/2/2020 1:28:19 AM; Lifecycle Status: Active; Minimum Order: 1; Mounting Type: Surface Mount; Operating Temperature: -65°C ~ 150°C (TJ); Package / Case: DO-214AA, SMB; Packaging: TapeAndReel; PartId: 9301; Part Status: Active; Price: 0.35; Series: Automotive, AEC-Q101; Supplier 1: DigiKey; Supplier Part Number 1: F11634CT-ND; Supplier Device Package: SMB; Voltage - Clamping (Max) @ Ipp: 64.8V; Voltage - Reverse Standoff (Typ): 40.2V
footprint DO214AA SMB
pins: 1, 2

## SZP6SMB51AT3G
designator D?
TVS DIODE 43.6V 70.1V SMB; Manufacturer: Littelfuse Inc.; Capacitance @ Frequency: 395pF @ 1MHz; Current - Peak Pulse (10/1000µs): 8.6A; Power Line Protection: No; Power - Peak Pulse: 600W; Type: Zener; Unidirectional Channels: 1; Voltage - Breakdown (Min): 48.5V; Part Number: SZP6SMB51AT3G; Applications: Automotive; ComponentLink1Description: Datasheet; ComponentLink1URL: https://www.littelfuse.com/~/media/electronics/datasheets/tvs_diodes/littelfuse_tvs_diode_szp6smb_datasheet.pdf.pdf; ComponentLink2Description: DigiKey Link; ComponentLink2URL: http://digikey.com/product-detail/en/littelfuse-inc/SZP6SMB51AT3G/F11635CT-ND/9326955; LastUpdated: 9/2/2020 1:19:45 AM; Lifecycle Status: Active; Minimum Order: 1; Mounting Type: Surface Mount; Operating Temperature: -65°C ~ 150°C (TJ); Package / Case: DO-214AA, SMB; Packaging: TapeAndReel; PartId: 10749; Part Status: Active; Price: 0.24; Series: Automotive, AEC-Q101; Supplier 1: DigiKey; Supplier Part Number 1: F11635CT-ND; Supplier Device Package: SMB; Voltage - Clamping (Max) @ Ipp: 70.1V; Voltage - Reverse Standoff (Typ): 43.6V
footprint DO214AA SMB
pins: 1, 2

## SZP6SMB51CAT3G
designator D?
TVS DIODE 43.6V 70.1V SMB; Manufacturer: Littelfuse Inc.; Bidirectional Channels: 1; Capacitance @ Frequency: 205pF @ 1MHz; Current - Peak Pulse (10/1000µs): 8.6A; Power Line Protection: No; Power - Peak Pulse: 600W; Type: Zener; Voltage - Breakdown (Min): 48.5V; Part Number: SZP6SMB51CAT3G; Applications: Automotive; ComponentLink1Description: Datasheet; ComponentLink1URL: https://www.littelfuse.com/~/media/electronics/datasheets/tvs_diodes/littelfuse_tvs_diode_szp6smb_datasheet.pdf.pdf; ComponentLink2Description: DigiKey Link; ComponentLink2URL: http://digikey.com/product-detail/en/littelfuse-inc/SZP6SMB51CAT3G/F11636CT-ND/9326956; LastUpdated: 9/2/2020 1:28:22 AM; Lifecycle Status: Active; Minimum Order: 1; Mounting Type: Surface Mount; Operating Temperature: -65°C ~ 150°C (TJ); Package / Case: DO-214AA, SMB; Packaging: TapeAndReel; PartId: 9641; Part Status: Active; Price: 0.29; Series: Automotive, AEC-Q101; Supplier 1: DigiKey; Supplier Part Number 1: F11636CT-ND; Supplier Device Package: SMB; Voltage - Clamping (Max) @ Ipp: 70.1V; Voltage - Reverse Standoff (Typ): 43.6V
footprint DO214AA SMB
pins: 1, 2

## SZP6SMB56AT3G
designator D?
TVS DIODE 47.8V 77V SMB; Manufacturer: Littelfuse Inc.; Capacitance @ Frequency: 365pF @ 1MHz; Current - Peak Pulse (10/1000µs): 7.8A; Power Line Protection: No; Power - Peak Pulse: 600W; Type: Zener; Unidirectional Channels: 1; Voltage - Breakdown (Min): 53.2V; Part Number: SZP6SMB56AT3G; Applications: Automotive; ComponentLink1Description: Datasheet; ComponentLink1URL: https://www.littelfuse.com/~/media/electronics/datasheets/tvs_diodes/littelfuse_tvs_diode_szp6smb_datasheet.pdf.pdf; ComponentLink2Description: DigiKey Link; ComponentLink2URL: http://digikey.com/product-detail/en/littelfuse-inc/SZP6SMB56AT3G/F11637CT-ND/9326957; LastUpdated: 9/2/2020 1:19:51 AM; Lifecycle Status: Active; Minimum Order: 1; Mounting Type: Surface Mount; Operating Temperature: -65°C ~ 150°C (TJ); Package / Case: DO-214AA, SMB; Packaging: TapeAndReel; PartId: 11345; Part Status: Active; Price: 0.30; Series: Automotive, AEC-Q101; Supplier 1: DigiKey; Supplier Part Number 1: F11637CT-ND; Supplier Device Package: SMB; Voltage - Clamping (Max) @ Ipp: 77V; Voltage - Reverse Standoff (Typ): 47.8V
footprint DO214AA SMB
pins: 1, 2

## SZP6SMB56CAT3G
designator D?
TVS DIODE 47.8V 77V SMB; Manufacturer: Littelfuse Inc.; Bidirectional Channels: 1; Capacitance @ Frequency: 185pF @ 1MHz; Current - Peak Pulse (10/1000µs): 7.8A; Power Line Protection: No; Power - Peak Pulse: 600W; Type: Zener; Voltage - Breakdown (Min): 53.2V; Part Number: SZP6SMB56CAT3G; Applications: Automotive; ComponentLink1Description: Datasheet; ComponentLink1URL: https://www.littelfuse.com/~/media/electronics/datasheets/tvs_diodes/littelfuse_tvs_diode_szp6smb_datasheet.pdf.pdf; ComponentLink2Description: DigiKey Link; ComponentLink2URL: http://digikey.com/product-detail/en/littelfuse-inc/SZP6SMB56CAT3G/F11638CT-ND/9326958; LastUpdated: 9/2/2020 1:28:19 AM; Lifecycle Status: Active; Minimum Order: 1; Mounting Type: Surface Mount; Operating Temperature: -65°C ~ 150°C (TJ); Package / Case: DO-214AA, SMB; Packaging: TapeAndReel; PartId: 9303; Part Status: Active; Price: 0.35; Series: Automotive, AEC-Q101; Supplier 1: DigiKey; Supplier Part Number 1: F11638CT-ND; Supplier Device Package: SMB; Voltage - Clamping (Max) @ Ipp: 77V; Voltage - Reverse Standoff (Typ): 47.8V
footprint DO214AA SMB
pins: 1, 2

## SZP6SMB62AT3G
designator D?
TVS DIODE 53V 85V SMB; Manufacturer: Littelfuse Inc.; Capacitance @ Frequency: 335pF @ 1MHz; Current - Peak Pulse (10/1000µs): 7.1A; Power Line Protection: No; Power - Peak Pulse: 600W; Type: Zener; Unidirectional Channels: 1; Voltage - Breakdown (Min): 58.9V; Part Number: SZP6SMB62AT3G; Applications: Automotive; ComponentLink1Description: Datasheet; ComponentLink1URL: https://www.littelfuse.com/~/media/electronics/datasheets/tvs_diodes/littelfuse_tvs_diode_szp6smb_datasheet.pdf.pdf; ComponentLink2Description: DigiKey Link; ComponentLink2URL: http://digikey.com/product-detail/en/littelfuse-inc/SZP6SMB62AT3G/F11640CT-ND/9326960; LastUpdated: 9/2/2020 1:19:48 AM; Lifecycle Status: Active; Minimum Order: 1; Mounting Type: Surface Mount; Operating Temperature: -65°C ~ 150°C (TJ); Package / Case: DO-214AA, SMB; Packaging: TapeAndReel; PartId: 10998; Part Status: Active; Price: 0.33; Series: Automotive, AEC-Q101; Supplier 1: DigiKey; Supplier Part Number 1: F11640CT-ND; Supplier Device Package: SMB; Voltage - Clamping (Max) @ Ipp: 85V; Voltage - Reverse Standoff (Typ): 53V
footprint DO214AA SMB
pins: 1, 2

## SZP6SMB62CAT3G
designator D?
TVS DIODE 53V 85V SMB; Manufacturer: Littelfuse Inc.; Bidirectional Channels: 1; Capacitance @ Frequency: 170pF @ 1MHz; Current - Peak Pulse (10/1000µs): 7.1A; Power Line Protection: No; Power - Peak Pulse: 600W; Type: Zener; Voltage - Breakdown (Min): 58.9V; Part Number: SZP6SMB62CAT3G; Applications: Automotive; ComponentLink1Description: Datasheet; ComponentLink1URL: https://www.littelfuse.com/~/media/electronics/datasheets/tvs_diodes/littelfuse_tvs_diode_szp6smb_datasheet.pdf.pdf; ComponentLink2Description: DigiKey Link; ComponentLink2URL: http://digikey.com/product-detail/en/littelfuse-inc/SZP6SMB62CAT3G/F11641CT-ND/9326961; LastUpdated: 9/2/2020 1:28:22 AM; Lifecycle Status: Active; Minimum Order: 1; Mounting Type: Surface Mount; Operating Temperature: -65°C ~ 150°C (TJ); Package / Case: DO-214AA, SMB; Packaging: TapeAndReel; PartId: 9627; Part Status: Active; Price: 0.31; Series: Automotive, AEC-Q101; Supplier 1: DigiKey; Supplier Part Number 1: F11641CT-ND; Supplier Device Package: SMB; Voltage - Clamping (Max) @ Ipp: 85V; Voltage - Reverse Standoff (Typ): 53V
footprint DO214AA SMB
pins: 1, 2

## SZP6SMB68CAT3G
designator D?
TVS DIODE 58.1V 92V SMB; Manufacturer: Littelfuse Inc.; Bidirectional Channels: 1; Capacitance @ Frequency: 155pF @ 1MHz; Current - Peak Pulse (10/1000µs): 6.5A; Power Line Protection: No; Power - Peak Pulse: 600W; Type: Zener; Voltage - Breakdown (Min): 64.6V; Part Number: SZP6SMB68CAT3G; Applications: Automotive; ComponentLink1Description: Datasheet; ComponentLink1URL: https://www.littelfuse.com/~/media/electronics/datasheets/tvs_diodes/littelfuse_tvs_diode_szp6smb_datasheet.pdf.pdf; ComponentLink2Description: DigiKey Link; ComponentLink2URL: http://digikey.com/product-detail/en/littelfuse-inc/SZP6SMB68CAT3G/F11642CT-ND/9326962; LastUpdated: 9/2/2020 1:28:19 AM; Lifecycle Status: Active; Minimum Order: 1; Mounting Type: Surface Mount; Operating Temperature: -65°C ~ 150°C (TJ); Package / Case: DO-214AA, SMB; Packaging: TapeAndReel; PartId: 9305; Part Status: Active; Price: 0.35; Series: Automotive, AEC-Q101; Supplier 1: DigiKey; Supplier Part Number 1: F11642CT-ND; Supplier Device Package: SMB; Voltage - Clamping (Max) @ Ipp: 92V; Voltage - Reverse Standoff (Typ): 58.1V
footprint DO214AA SMB
pins: 1, 2

## SZP6SMB75AT3G
designator D?
TVS DIODE 64.1V 103V SMB; Manufacturer: Littelfuse Inc.; Capacitance @ Frequency: 280pF @ 1MHz; Current - Peak Pulse (10/1000µs): 5.8A; Power Line Protection: No; Power - Peak Pulse: 600W; Type: Zener; Unidirectional Channels: 1; Voltage - Breakdown (Min): 71.3V; Part Number: SZP6SMB75AT3G; Applications: Automotive; ComponentLink1Description: Datasheet; ComponentLink1URL: https://www.littelfuse.com/~/media/electronics/datasheets/tvs_diodes/littelfuse_tvs_diode_szp6smb_datasheet.pdf.pdf; ComponentLink2Description: DigiKey Link; ComponentLink2URL: http://digikey.com/product-detail/en/littelfuse-inc/SZP6SMB75AT3G/F11643CT-ND/9326963; LastUpdated: 9/2/2020 1:19:51 AM; Lifecycle Status: Active; Minimum Order: 1; Mounting Type: Surface Mount; Operating Temperature: -65°C ~ 150°C (TJ); Package / Case: DO-214AA, SMB; Packaging: TapeAndReel; PartId: 11339; Part Status: Active; Price: 0.30; Series: Automotive, AEC-Q101; Supplier 1: DigiKey; Supplier Part Number 1: F11643CT-ND; Supplier Device Package: SMB; Voltage - Clamping (Max) @ Ipp: 103V; Voltage - Reverse Standoff (Typ): 64.1V
footprint DO214AA SMB
pins: 1, 2

## SZP6SMB82AT3G
designator D?
TVS DIODE 70.1V 113V SMB; Manufacturer: Littelfuse Inc.; Capacitance @ Frequency: 260pF @ 1MHz; Current - Peak Pulse (10/1000µs): 5.3A; Power Line Protection: No; Power - Peak Pulse: 600W; Type: Zener; Unidirectional Channels: 1; Voltage - Breakdown (Min): 77.9V; Part Number: SZP6SMB82AT3G; Applications: Automotive; ComponentLink1Description: Datasheet; ComponentLink1URL: https://www.littelfuse.com/~/media/electronics/datasheets/tvs_diodes/littelfuse_tvs_diode_szp6smb_datasheet.pdf.pdf; ComponentLink2Description: DigiKey Link; ComponentLink2URL: http://digikey.com/product-detail/en/littelfuse-inc/SZP6SMB82AT3G/F11644CT-ND/9326964; LastUpdated: 9/2/2020 1:19:43 AM; Lifecycle Status: Active; Minimum Order: 1; Mounting Type: Surface Mount; Operating Temperature: -65°C ~ 150°C (TJ); Package / Case: DO-214AA, SMB; Packaging: TapeAndReel; PartId: 10534; Part Status: Active; Price: 0.24; Series: Automotive, AEC-Q101; Supplier 1: DigiKey; Supplier Part Number 1: F11644CT-ND; Supplier Device Package: SMB; Voltage - Clamping (Max) @ Ipp: 113V; Voltage - Reverse Standoff (Typ): 70.1V
footprint DO214AA SMB
pins: 1, 2

## SZP6SMB82CAT3G
designator D?
TVS DIODE 70.1V 113V SMB; Manufacturer: Littelfuse Inc.; Bidirectional Channels: 1; Capacitance @ Frequency: 130pF @ 1MHz; Current - Peak Pulse (10/1000µs): 5.3A; Power Line Protection: No; Power - Peak Pulse: 600W; Type: Zener; Voltage - Breakdown (Min): 77.9V; Part Number: SZP6SMB82CAT3G; Applications: Automotive; ComponentLink1Description: Datasheet; ComponentLink1URL: https://www.littelfuse.com/~/media/electronics/datasheets/tvs_diodes/littelfuse_tvs_diode_szp6smb_datasheet.pdf.pdf; ComponentLink2Description: DigiKey Link; ComponentLink2URL: http://digikey.com/product-detail/en/littelfuse-inc/SZP6SMB82CAT3G/F11645CT-ND/9326965; LastUpdated: 9/2/2020 1:28:19 AM; Lifecycle Status: Active; Minimum Order: 1; Mounting Type: Surface Mount; Operating Temperature: -65°C ~ 150°C (TJ); Package / Case: DO-214AA, SMB; Packaging: TapeAndReel; PartId: 9304; Part Status: Active; Price: 0.35; Series: Automotive, AEC-Q101; Supplier 1: DigiKey; Supplier Part Number 1: F11645CT-ND; Supplier Device Package: SMB; Voltage - Clamping (Max) @ Ipp: 113V; Voltage - Reverse Standoff (Typ): 70.1V
footprint DO214AA SMB
pins: 1, 2

## SZP6SMB91AT3G
designator D?
TVS DIODE 77.8V 125V SMB; Manufacturer: Littelfuse Inc.; Capacitance @ Frequency: 235pF @ 1MHz; Current - Peak Pulse (10/1000µs): 4.8A; Power Line Protection: No; Power - Peak Pulse: 600W; Type: Zener; Unidirectional Channels: 1; Voltage - Breakdown (Min): 86.5V; Part Number: SZP6SMB91AT3G; Applications: Automotive; ComponentLink1Description: Datasheet; ComponentLink1URL: https://www.littelfuse.com/~/media/electronics/datasheets/tvs_diodes/littelfuse_tvs_diode_szp6smb_datasheet.pdf.pdf; ComponentLink2Description: DigiKey Link; ComponentLink2URL: http://digikey.com/product-detail/en/littelfuse-inc/SZP6SMB91AT3G/F11646CT-ND/9326966; LastUpdated: 9/2/2020 1:19:48 AM; Lifecycle Status: Active; Minimum Order: 1; Mounting Type: Surface Mount; Operating Temperature: -65°C ~ 150°C (TJ); Package / Case: DO-214AA, SMB; Packaging: TapeAndReel; PartId: 10994; Part Status: Active; Price: 0.37; Series: Automotive, AEC-Q101; Supplier 1: DigiKey; Supplier Part Number 1: F11646CT-ND; Supplier Device Package: SMB; Voltage - Clamping (Max) @ Ipp: 125V; Voltage - Reverse Standoff (Typ): 77.8V
footprint DO214AA SMB
pins: 1, 2

## SZP6SMB100AT3G
designator D?
TVS DIODE 85.5V 137V SMB; Manufacturer: Littelfuse Inc.; Capacitance @ Frequency: 215pF @ 1MHz; Current - Peak Pulse (10/1000µs): 4.4A; Power Line Protection: No; Power - Peak Pulse: 600W; Type: Zener; Unidirectional Channels: 1; Voltage - Breakdown (Min): 95V; Part Number: SZP6SMB100AT3G; Applications: Automotive; ComponentLink1Description: Datasheet; ComponentLink1URL: https://www.littelfuse.com/~/media/electronics/datasheets/tvs_diodes/littelfuse_tvs_diode_szp6smb_datasheet.pdf.pdf; ComponentLink2Description: DigiKey Link; ComponentLink2URL: http://digikey.com/product-detail/en/littelfuse-inc/SZP6SMB100AT3G/F11603CT-ND/9326923; LastUpdated: 9/2/2020 1:19:48 AM; Lifecycle Status: Active; Minimum Order: 1; Mounting Type: Surface Mount; Operating Temperature: -65°C ~ 150°C (TJ); Package / Case: DO-214AA, SMB; Packaging: TapeAndReel; PartId: 10992; Part Status: Active; Price: 0.35; Series: Automotive, AEC-Q101; Supplier 1: DigiKey; Supplier Part Number 1: F11603CT-ND; Supplier Device Package: SMB; Voltage - Clamping (Max) @ Ipp: 137V; Voltage - Reverse Standoff (Typ): 85.5V
footprint DO214AA SMB
pins: 1, 2

## SZP6SMB120AT3G
designator D?
TVS DIODE 102V 165V SMB; Manufacturer: Littelfuse Inc.; Capacitance @ Frequency: 185pF @ 1MHz; Current - Peak Pulse (10/1000µs): 3.6A; Power Line Protection: No; Power - Peak Pulse: 600W; Type: Zener; Unidirectional Channels: 1; Voltage - Breakdown (Min): 114V; Part Number: SZP6SMB120AT3G; Applications: Automotive; ComponentLink1Description: Datasheet; ComponentLink1URL: https://www.littelfuse.com/~/media/electronics/datasheets/tvs_diodes/littelfuse_tvs_diode_szp6smb_datasheet.pdf.pdf; ComponentLink2Description: DigiKey Link; ComponentLink2URL: http://digikey.com/product-detail/en/littelfuse-inc/SZP6SMB120AT3G/F11605CT-ND/9326925; LastUpdated: 9/2/2020 1:19:50 AM; Lifecycle Status: Active; Minimum Order: 1; Mounting Type: Surface Mount; Operating Temperature: -65°C ~ 150°C (TJ); Package / Case: DO-214AA, SMB; Packaging: TapeAndReel; PartId: 11289; Part Status: Active; Price: 0.37; Series: Automotive, AEC-Q101; Supplier 1: DigiKey; Supplier Part Number 1: F11605CT-ND; Supplier Device Package: SMB; Voltage - Clamping (Max) @ Ipp: 165V; Voltage - Reverse Standoff (Typ): 102V
footprint DO214AA SMB
pins: 1, 2

## SZP6SMB130AT3G
designator D?
TVS DIODE 111V 179V SMB; Manufacturer: Littelfuse Inc.; Capacitance @ Frequency: 170pF @ 1MHz; Current - Peak Pulse (10/1000µs): 3.3A; Power Line Protection: No; Power - Peak Pulse: 600W; Type: Zener; Unidirectional Channels: 1; Voltage - Breakdown (Min): 124V; Part Number: SZP6SMB130AT3G; Applications: Automotive; ComponentLink1Description: Datasheet; ComponentLink1URL: https://www.littelfuse.com/~/media/electronics/datasheets/tvs_diodes/littelfuse_tvs_diode_szp6smb_datasheet.pdf.pdf; ComponentLink2Description: DigiKey Link; ComponentLink2URL: http://digikey.com/product-detail/en/littelfuse-inc/SZP6SMB130AT3G/F11608CT-ND/9326928; LastUpdated: 9/2/2020 1:19:48 AM; Lifecycle Status: Active; Minimum Order: 1; Mounting Type: Surface Mount; Operating Temperature: -65°C ~ 150°C (TJ); Package / Case: DO-214AA, SMB; Packaging: TapeAndReel; PartId: 10996; Part Status: Active; Price: 0.37; Series: Automotive, AEC-Q101; Supplier 1: DigiKey; Supplier Part Number 1: F11608CT-ND; Supplier Device Package: SMB; Voltage - Clamping (Max) @ Ipp: 179V; Voltage - Reverse Standoff (Typ): 111V
footprint DO214AA SMB
pins: 1, 2

## SZP6SMB150AT3G
designator D?
TVS DIODE 128V 207V SMB; Manufacturer: Littelfuse Inc.; Capacitance @ Frequency: 150pF @ 1MHz; Current - Peak Pulse (10/1000µs): 2.9A; Power Line Protection: No; Power - Peak Pulse: 600W; Type: Zener; Unidirectional Channels: 1; Voltage - Breakdown (Min): 143V; Part Number: SZP6SMB150AT3G; Applications: Automotive; ComponentLink1Description: Datasheet; ComponentLink1URL: https://www.littelfuse.com/~/media/electronics/datasheets/tvs_diodes/littelfuse_tvs_diode_szp6smb_datasheet.pdf.pdf; ComponentLink2Description: DigiKey Link; ComponentLink2URL: http://digikey.com/product-detail/en/littelfuse-inc/SZP6SMB150AT3G/F11610CT-ND/9326930; LastUpdated: 9/2/2020 1:19:49 AM; Lifecycle Status: Active; Minimum Order: 1; Mounting Type: Surface Mount; Operating Temperature: -65°C ~ 150°C (TJ); Package / Case: DO-214AA, SMB; Packaging: TapeAndReel; PartId: 11198; Part Status: Active; Price: 0.64; Series: Automotive, AEC-Q101; Supplier 1: DigiKey; Supplier Part Number 1: F11610CT-ND; Supplier Device Package: SMB; Voltage - Clamping (Max) @ Ipp: 207V; Voltage - Reverse Standoff (Typ): 128V
footprint DO214AA SMB
pins: 1, 2